# Altium schematic symbol library Other_3D.SchLib: 1 symbol
Pins are listed as number, name and electrical type; pins without a type are passive.

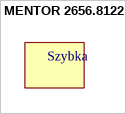
[diagram p0: symbol MENTOR 2656.8122]

## MENTOR 2656.8122
designator Szybka  (value not drawn)
footprint MENTOR 2656.8122